# Altium integrated library Analog Devices Data Converters Digital-to-Analog Converters.IntLib: 2231 symbols (part 114 of 181)
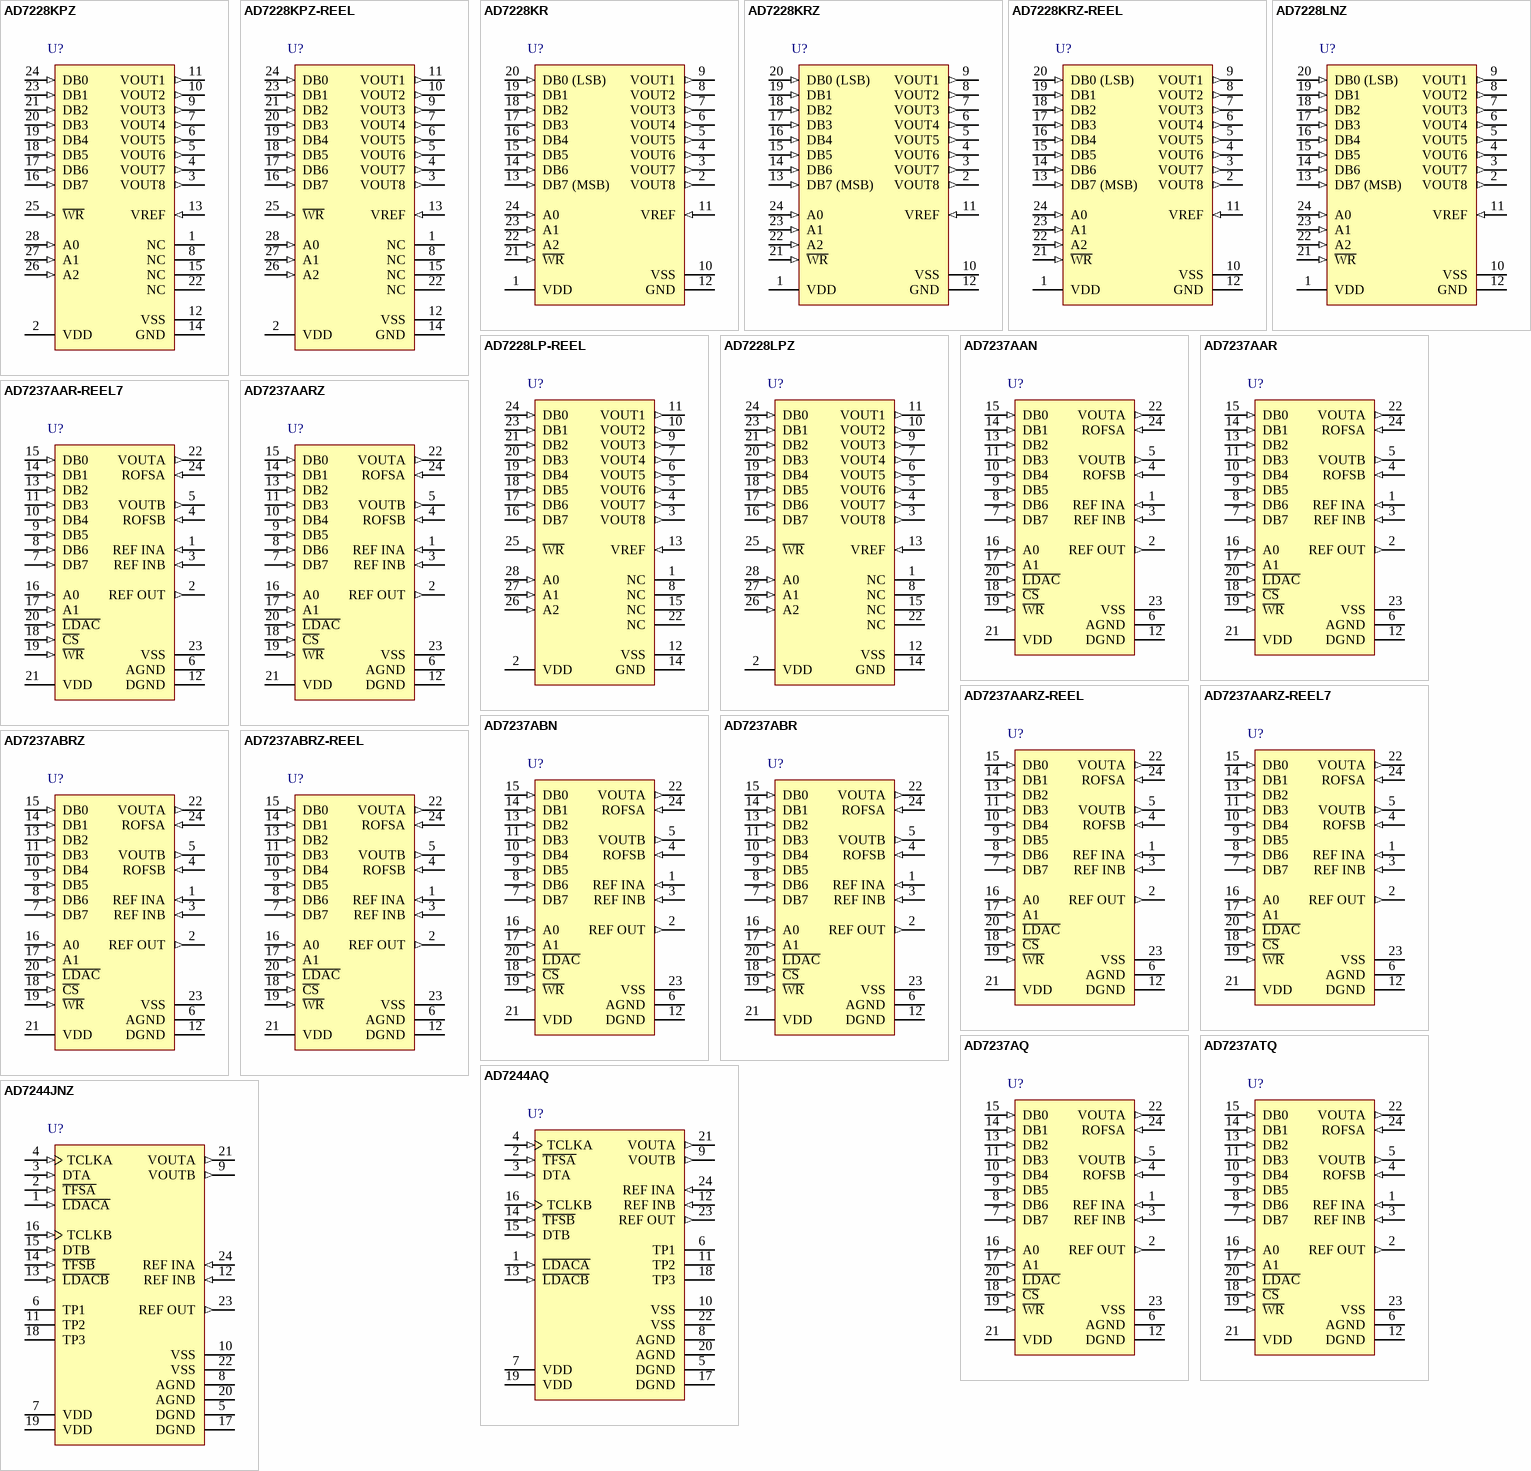
[diagram p227: symbols AD7228KPZ to AD7244JNZ]

## AD7237AARZ-REEL7
designator U?
Dual 12-Bit LC2MOS DACPORT, -40 to +85 degC, RW-24, Pb-Free, Reel; Generic Part Number: AD7237A; Manufacturer: Analog Devices; PartNumber: AD7237AARZ-REEL7; # DAC Outputs: 2; Max V+: 16.5V; Op Pwr Diss: 300mW; Resolution (Bits): 12; Settling Time: 8µs; Single Supply: Yes; DatasheetVersion: Rev.A; PackageVersion: 060706-A; PackageReference: RW-24; PackageDescription: 24-Lead Standard Small Outline Package [SOIC_W]; Supplier 1: Digi-Key; Supplier Part Number 1: AD7237AARZ-REEL7-ND; Supplier 2: Mouser; Supplier Part Number 2: 584-AD7237AARZ-R7; Packing: Reel; RoHS: Y; Mounting Technology: Surface Mount; Code_JEDEC: MS-013-AD; ComponentLink1Description: Manufacturer URL; ComponentLink1URL: http://www.analog.com/en/index.html; ComponentLink2Description: Datasheet; ComponentLink2URL: http://www.analog.com/static/imported-files/data_sheets/AD7237_7247.pdf; ComponentLink3Description: Package Specification; ComponentLink3URL: http://www.analog.com/static/imported-files/packages/33665150946139RW_24.pdf; ComponentLink4Description: Product URL; ComponentLink4URL: http://www.analog.com/en/digital-to-analog-converters/da-converters/ad7237/products/product.html
footprint RW-24_N (SOIC, 24-Leads, Body 15.4x7.5mm, Pitch 1.27mm, IPC Medium Density)
footprint RW-24_L (SOIC, 24-Leads, Body 15.4x7.5mm, Pitch 1.27mm, IPC High Density)
footprint RW-24_M (SOIC, 24-Leads, Body 15.4x7.5mm, Pitch 1.27mm, IPC Low Density)
pins: 1 REF INA (in) "Voltage Reference Input for DAC A. The reference voltage for DAC A is applied to this pin. It is internally buffered before being applied to the DAC. The nominal reference voltage for correct operation of the AD7237A is 5 V.", 2 REF OUT (out) "Voltage Reference Output. The internal 5 V analog reference is provided at this pin. To operate the part with internal reference, REF OUT should be connected to REF INA, REF INB.", 3 REF INB (in) "Voltage Reference Input for DAC B. The reference voltage for DAC B is applied to this pin. It is internally buffered before being applied to the DAC. The nominal reference voltage for correct operation of the AD7237A is 5 V.", 4 ROFSB (in) "Output Offset Resistor for DAC B. This input configures the output ranges for DAC B. It is connected to VOUTB for the +5 V range, to AGND for the +10 V range and to REF INB for the +/-5 V range.", 5 VOUTB (out) "Analog Output Voltage from DAC B. This is the buffer amplifier output voltage. Three different output voltage ranges can be chosen: 0 V to +5 V, 0 V to +10 V and +/-5 V. The amplifier is capable of developing +10 V across a (See Datasheet)", 6 AGND (power) "Analog Ground. Ground reference for DACs, reference and output buffer amplifiers.", 7 DB7 (in) "Data Bit 7.", 8 DB6 (in) "Data Bit 6.", 9 DB5 (in) "Data Bit 5.", 10 DB4 (in) "Data Bit 4.", 11 DB3 (in) "Data Bit 3", 12 DGND (power) "Digital Ground. Ground reference for digital circuitry.", 13 DB2 (in) "Data Bit 2", 14 DB1 (in) "Data Bit 1", 15 DB0 (in) "Data Bit 0 (LSB)", 16 A0 (in) "Address Input. Least significant address input for input latches. A0 and A1 select which of the four input latches data is written to", 17 A1 (in) "Address Input. Most significant address input for input latches.", 18 ~{CS} (in) "Chip Select. Active low logic input. The device is selected when this input is active.", 19 ~{WR} (in) "Write Input. W\R\ is an active low logic input which is used in conjunction with C\S\, A0 and A1 to write data to the input latches.", 20 ~{LDAC} (in) "Load DAC. Logic input. A new word is loaded into the DAC latches from the respective input latches on the falling edge of this signal.", 21 VDD (power) "Positive Supply ,+15 V.", 22 VOUTA (out) "Analog Output Voltage from DAC A. This is the buffer amplifier output voltage. Three different output voltage ranges can be chosen: 0 V to +5 V, 0 V to +10 V and +/-5 V. The amplifier is capable of developing +10 V across a (See Datasheet)", 23 VSS (power) "Negative Supply ,-15 V.", 24 ROFSA (in) "Output Offset Resistor for DAC A. This input configures the output ranges for DAC A. It is connected to VOUTA for the +5 V range, to AGND for the +10 V range and to REF INA for the +/-5 V range."

## AD7237ABN
designator U?
Dual 12-Bit LC2MOS DACPORT, -40 to +85 degC, N-24-1, Tube; Generic Part Number: AD7237A; Manufacturer: Analog Devices; PartNumber: AD7237ABN; # DAC Outputs: 2; Max V+: 16.5V; Op Pwr Diss: 300mW; Resolution (Bits): 12; Settling Time: 8µs; Single Supply: Yes; DatasheetVersion: Rev.A; PackageVersion: 071006-A; PackageReference: N-24-1; PackageDescription: 24-Lead Plastic Dual In-Line Package [PDIP] Narrow Body; Supplier 1: Digi-Key; Supplier Part Number 1: AD7237ABN-ND; Supplier 2: Newark; Supplier Part Number 2: 09B5587; Supplier 3: Mouser; Supplier Part Number 3: 584-AD7237ABN; Packing: Tube; RoHS: N; Mounting Technology: Through Hole; Code_JEDEC: MS-001; ComponentLink1Description: Manufacturer URL; ComponentLink1URL: http://www.analog.com/en/index.html; ComponentLink2Description: Datasheet; ComponentLink2URL: http://www.analog.com/static/imported-files/data_sheets/AD7237_7247.pdf; ComponentLink3Description: Package Specification; ComponentLink3URL: http://www.analog.com/static/imported-files/packages/50726455539629N_24_1.pdf; ComponentLink4Description: Product URL; ComponentLink4URL: http://www.analog.com/en/digital-to-analog-converters/da-converters/ad7237/products/product.html
footprint N-24-1 (DIP, 24-Leads, Row Spacing 7.62mm, Pitch 2.54mm, Body 31.9x6.6mm)
pins: 1 REF INA (in) "Voltage Reference Input for DAC A.The reference voltage for DAC A is applied to this pin.It is internally buffered before being applied to the DAC.The nominal reference voltage for correct operation of the AD7237 is 5 V.", 2 REF OUT (out) "Voltage Reference Output.The internal 5 V analog reference is provided at this pin.To operate the part with internal reference,REF OUT should be connected to REF INA,REF INB.", 3 REF INB (in) "Voltage Reference Input for DAC B.The reference voltage for DAC B is applied to this pin.It is internally buffered before being applied to the DAC.The nominal reference voltage for correct operation of the AD7237 is 5 V.", 4 ROFSB (in) "Output Offset Resistor for DAC B.This input configures the output ranges for DAC B.It is connected to VOUTB for the + 5 V range,to AGND for the + 10 V range and to REF INB for the +/- 5 V range.", 5 VOUTB (out) "Analog Output Voltage from DAC B.This is the buffer amplifier output voltage.Three different output voltage ranges can be chosen:0 to + 5 V,0 to + 10 V and +/- 5 V.The amplifier is capable of developing + 10 V across a 2 (See Datasheet)", 6 AGND (power) "Analog Ground.Ground reference for DACs,reference and output buffer amplifiers.", 7 DB7 (in) "Data Bit 7.", 8 DB6 (in) "Data bit 6.", 9 DB5 (in) "Data Bit 5.", 10 DB4 (in) "Data Bit 4.", 11 DB3 (in) "Data Bit 3/Data Bit 11 (MSB).", 12 DGND (power) "Digital Ground.Ground reference for digital circuitry.", 13 DB2 (in) "Data Bit 2/Data Bit 10.", 14 DB1 (in) "Data Bit 1/Data Bit 9.", 15 DB0 (in) "Data Bit 0 (LSB)/Data Bit 8.", 16 A0 (in) "Address Input.Least significant address input for input latches.A0 and A1 select which of the four input latches data is written to (see Table II)", 17 A1 (in) "Address Input.Most significant address input for input latches.", 18 ~{CS} (in) "Chip Select.Active low logic input.The device is selected when this input is active.", 19 ~{WR} (in) "Write Input.W\R\ is an active low logic input which is used in conjunction with C\S\,A0 and A1 to write data to the input latches.", 20 ~{LDAC} (in) "Load DAC.Logic input.A new word is loaded into the DAC latches from the respective input latches on the falling edge of this signal.", 21 VDD (power) "Positive Supply,+ 15 V.", 22 VOUTA (out) "Analog Output Voltage from DAC A.This is the buffer amplifier output voltage.Three different output voltage ranges can be chosen:0 to + 5 V,0 to + 10 V and +/- 5 V.The amplifier is capable of developing + 10 V across a 2 (See Datasheet)", 23 VSS (power) "Negative Supply,- 15 V.", 24 ROFSA (in) "Output Offset Resistor for DAC A.This input configures the output ranges for DAC A.It is connected to VOUTA for the + 5 V range,to AGND for the + 10 V range and to REF INB for the +/- 5 V range."

## AD7237ABR
designator U?
Dual 12-Bit LC2MOS DACPORT, -40 to +85 degC, RW-24, Tube; Generic Part Number: AD7237A; Manufacturer: Analog Devices; PartNumber: AD7237ABR; # DAC Outputs: 2; Max V+: 16.5V; Op Pwr Diss: 300mW; Resolution (Bits): 12; Settling Time: 8µs; Single Supply: Yes; DatasheetVersion: Rev.A; PackageVersion: 060706-A; PackageReference: RW-24; PackageDescription: 24-Lead Standard Small Outline Package [SOIC_W]; Supplier 1: Digi-Key; Supplier Part Number 1: AD7237ABR-ND; Supplier 2: Newark; Supplier Part Number 2: 09B5588; Supplier 3: Mouser; Supplier Part Number 3: 584-AD7237ABR; Packing: Tube; RoHS: N; Mounting Technology: Surface Mount; Code_JEDEC: MS-013-AD; ComponentLink1Description: Manufacturer URL; ComponentLink1URL: http://www.analog.com/en/index.html; ComponentLink2Description: Datasheet; ComponentLink2URL: http://www.analog.com/static/imported-files/data_sheets/AD7237_7247.pdf; ComponentLink3Description: Package Specification; ComponentLink3URL: http://www.analog.com/static/imported-files/packages/33665150946139RW_24.pdf; ComponentLink4Description: Product URL; ComponentLink4URL: http://www.analog.com/en/digital-to-analog-converters/da-converters/ad7237/products/product.html
footprint RW-24_N (SOIC, 24-Leads, Body 15.4x7.5mm, Pitch 1.27mm, IPC Medium Density)
footprint RW-24_L (SOIC, 24-Leads, Body 15.4x7.5mm, Pitch 1.27mm, IPC High Density)
footprint RW-24_M (SOIC, 24-Leads, Body 15.4x7.5mm, Pitch 1.27mm, IPC Low Density)
pins: 1 REF INA (in) "Voltage Reference Input for DAC A. The reference voltage for DAC A is applied to this pin. It is internally buffered before being applied to the DAC. The nominal reference voltage for correct operation of the AD7237A is 5 V.", 2 REF OUT (out) "Voltage Reference Output. The internal 5 V analog reference is provided at this pin. To operate the part with internal reference, REF OUT should be connected to REF INA, REF INB.", 3 REF INB (in) "Voltage Reference Input for DAC B. The reference voltage for DAC B is applied to this pin. It is internally buffered before being applied to the DAC. The nominal reference voltage for correct operation of the AD7237A is 5 V.", 4 ROFSB (in) "Output Offset Resistor for DAC B. This input configures the output ranges for DAC B. It is connected to VOUTB for the +5 V range, to AGND for the +10 V range and to REF INB for the +/-5 V range.", 5 VOUTB (out) "Analog Output Voltage from DAC B. This is the buffer amplifier output voltage. Three different output voltage ranges can be chosen: 0 V to +5 V, 0 V to +10 V and +/-5 V. The amplifier is capable of developing +10 V across a (See Datasheet)", 6 AGND (power) "Analog Ground. Ground reference for DACs, reference and output buffer amplifiers.", 7 DB7 (in) "Data Bit 7.", 8 DB6 (in) "Data Bit 6.", 9 DB5 (in) "Data Bit 5.", 10 DB4 (in) "Data Bit 4.", 11 DB3 (in) "Data Bit 3", 12 DGND (power) "Digital Ground. Ground reference for digital circuitry.", 13 DB2 (in) "Data Bit 2", 14 DB1 (in) "Data Bit 1", 15 DB0 (in) "Data Bit 0 (LSB)", 16 A0 (in) "Address Input. Least significant address input for input latches. A0 and A1 select which of the four input latches data is written to", 17 A1 (in) "Address Input. Most significant address input for input latches.", 18 ~{CS} (in) "Chip Select. Active low logic input. The device is selected when this input is active.", 19 ~{WR} (in) "Write Input. W\R\ is an active low logic input which is used in conjunction with C\S\, A0 and A1 to write data to the input latches.", 20 ~{LDAC} (in) "Load DAC. Logic input. A new word is loaded into the DAC latches from the respective input latches on the falling edge of this signal.", 21 VDD (power) "Positive Supply ,+15 V.", 22 VOUTA (out) "Analog Output Voltage from DAC A. This is the buffer amplifier output voltage. Three different output voltage ranges can be chosen: 0 V to +5 V, 0 V to +10 V and +/-5 V. The amplifier is capable of developing +10 V across a (See Datasheet)", 23 VSS (power) "Negative Supply ,-15 V.", 24 ROFSA (in) "Output Offset Resistor for DAC A. This input configures the output ranges for DAC A. It is connected to VOUTA for the +5 V range, to AGND for the +10 V range and to REF INA for the +/-5 V range."

## AD7237ABRZ
designator U?
Dual 12-Bit LC2MOS DACPORT, -40 to +85 degC, RW-24, Pb-Free, Tube; Generic Part Number: AD7237A; Manufacturer: Analog Devices; PartNumber: AD7237ABRZ; # DAC Outputs: 2; Max V+: 16.5V; Op Pwr Diss: 300mW; Resolution (Bits): 12; Settling Time: 8µs; Single Supply: Yes; DatasheetVersion: Rev.A; PackageVersion: 060706-A; PackageReference: RW-24; PackageDescription: 24-Lead Standard Small Outline Package [SOIC_W]; Supplier 1: Digi-Key; Supplier Part Number 1: AD7237ABRZ-ND; Supplier 2: Newark; Supplier Part Number 2: 59K4599; Supplier 3: Mouser; Supplier Part Number 3: 584-AD7237ABRZ; Packing: Tube; RoHS: Y; Mounting Technology: Surface Mount; Code_JEDEC: MS-013-AD; ComponentLink1Description: Manufacturer URL; ComponentLink1URL: http://www.analog.com/en/index.html; ComponentLink2Description: Datasheet; ComponentLink2URL: http://www.analog.com/static/imported-files/data_sheets/AD7237_7247.pdf; ComponentLink3Description: Package Specification; ComponentLink3URL: http://www.analog.com/static/imported-files/packages/33665150946139RW_24.pdf; ComponentLink4Description: Product URL; ComponentLink4URL: http://www.analog.com/en/digital-to-analog-converters/da-converters/ad7237/products/product.html
footprint RW-24_N (SOIC, 24-Leads, Body 15.4x7.5mm, Pitch 1.27mm, IPC Medium Density)
footprint RW-24_L (SOIC, 24-Leads, Body 15.4x7.5mm, Pitch 1.27mm, IPC High Density)
footprint RW-24_M (SOIC, 24-Leads, Body 15.4x7.5mm, Pitch 1.27mm, IPC Low Density)
pins: 1 REF INA (in) "Voltage Reference Input for DAC A. The reference voltage for DAC A is applied to this pin. It is internally buffered before being applied to the DAC. The nominal reference voltage for correct operation of the AD7237A is 5 V.", 2 REF OUT (out) "Voltage Reference Output. The internal 5 V analog reference is provided at this pin. To operate the part with internal reference, REF OUT should be connected to REF INA, REF INB.", 3 REF INB (in) "Voltage Reference Input for DAC B. The reference voltage for DAC B is applied to this pin. It is internally buffered before being applied to the DAC. The nominal reference voltage for correct operation of the AD7237A is 5 V.", 4 ROFSB (in) "Output Offset Resistor for DAC B. This input configures the output ranges for DAC B. It is connected to VOUTB for the +5 V range, to AGND for the +10 V range and to REF INB for the +/-5 V range.", 5 VOUTB (out) "Analog Output Voltage from DAC B. This is the buffer amplifier output voltage. Three different output voltage ranges can be chosen: 0 V to +5 V, 0 V to +10 V and +/-5 V. The amplifier is capable of developing +10 V across a (See Datasheet)", 6 AGND (power) "Analog Ground. Ground reference for DACs, reference and output buffer amplifiers.", 7 DB7 (in) "Data Bit 7.", 8 DB6 (in) "Data Bit 6.", 9 DB5 (in) "Data Bit 5.", 10 DB4 (in) "Data Bit 4.", 11 DB3 (in) "Data Bit 3", 12 DGND (power) "Digital Ground. Ground reference for digital circuitry.", 13 DB2 (in) "Data Bit 2", 14 DB1 (in) "Data Bit 1", 15 DB0 (in) "Data Bit 0 (LSB)", 16 A0 (in) "Address Input. Least significant address input for input latches. A0 and A1 select which of the four input latches data is written to", 17 A1 (in) "Address Input. Most significant address input for input latches.", 18 ~{CS} (in) "Chip Select. Active low logic input. The device is selected when this input is active.", 19 ~{WR} (in) "Write Input. W\R\ is an active low logic input which is used in conjunction with C\S\, A0 and A1 to write data to the input latches.", 20 ~{LDAC} (in) "Load DAC. Logic input. A new word is loaded into the DAC latches from the respective input latches on the falling edge of this signal.", 21 VDD (power) "Positive Supply ,+15 V.", 22 VOUTA (out) "Analog Output Voltage from DAC A. This is the buffer amplifier output voltage. Three different output voltage ranges can be chosen: 0 V to +5 V, 0 V to +10 V and +/-5 V. The amplifier is capable of developing +10 V across a (See Datasheet)", 23 VSS (power) "Negative Supply ,-15 V.", 24 ROFSA (in) "Output Offset Resistor for DAC A. This input configures the output ranges for DAC A. It is connected to VOUTA for the +5 V range, to AGND for the +10 V range and to REF INA for the +/-5 V range."

## AD7237ABRZ-REEL
designator U?
Dual 12-Bit LC2MOS DACPORT, -40 to +85 degC, RW-24, Pb-Free, Reel; Generic Part Number: AD7237A; Manufacturer: Analog Devices; PartNumber: AD7237ABRZ-REEL; # DAC Outputs: 2; Max V+: 16.5V; Op Pwr Diss: 300mW; Resolution (Bits): 12; Settling Time: 8µs; Single Supply: Yes; DatasheetVersion: Rev.A; PackageVersion: 060706-A; PackageReference: RW-24; PackageDescription: 24-Lead Standard Small Outline Package [SOIC_W]; Supplier 1: Digi-Key; Supplier Part Number 1: AD7237ABRZ-REEL-ND; Supplier 2: Mouser; Supplier Part Number 2: 584-AD7237ABRZ-R; Packing: Reel; RoHS: Y; Mounting Technology: Surface Mount; Code_JEDEC: MS-013-AD; ComponentLink1Description: Manufacturer URL; ComponentLink1URL: http://www.analog.com/en/index.html; ComponentLink2Description: Datasheet; ComponentLink2URL: http://www.analog.com/static/imported-files/data_sheets/AD7237_7247.pdf; ComponentLink3Description: Package Specification; ComponentLink3URL: http://www.analog.com/static/imported-files/packages/33665150946139RW_24.pdf; ComponentLink4Description: Product URL; ComponentLink4URL: http://www.analog.com/en/digital-to-analog-converters/da-converters/ad7237/products/product.html
footprint RW-24_N (SOIC, 24-Leads, Body 15.4x7.5mm, Pitch 1.27mm, IPC Medium Density)
footprint RW-24_L (SOIC, 24-Leads, Body 15.4x7.5mm, Pitch 1.27mm, IPC High Density)
footprint RW-24_M (SOIC, 24-Leads, Body 15.4x7.5mm, Pitch 1.27mm, IPC Low Density)
pins: 1 REF INA (in) "Voltage Reference Input for DAC A. The reference voltage for DAC A is applied to this pin. It is internally buffered before being applied to the DAC. The nominal reference voltage for correct operation of the AD7237A is 5 V.", 2 REF OUT (out) "Voltage Reference Output. The internal 5 V analog reference is provided at this pin. To operate the part with internal reference, REF OUT should be connected to REF INA, REF INB.", 3 REF INB (in) "Voltage Reference Input for DAC B. The reference voltage for DAC B is applied to this pin. It is internally buffered before being applied to the DAC. The nominal reference voltage for correct operation of the AD7237A is 5 V.", 4 ROFSB (in) "Output Offset Resistor for DAC B. This input configures the output ranges for DAC B. It is connected to VOUTB for the +5 V range, to AGND for the +10 V range and to REF INB for the +/-5 V range.", 5 VOUTB (out) "Analog Output Voltage from DAC B. This is the buffer amplifier output voltage. Three different output voltage ranges can be chosen: 0 V to +5 V, 0 V to +10 V and +/-5 V. The amplifier is capable of developing +10 V across a (See Datasheet)", 6 AGND (power) "Analog Ground. Ground reference for DACs, reference and output buffer amplifiers.", 7 DB7 (in) "Data Bit 7.", 8 DB6 (in) "Data Bit 6.", 9 DB5 (in) "Data Bit 5.", 10 DB4 (in) "Data Bit 4.", 11 DB3 (in) "Data Bit 3", 12 DGND (power) "Digital Ground. Ground reference for digital circuitry.", 13 DB2 (in) "Data Bit 2", 14 DB1 (in) "Data Bit 1", 15 DB0 (in) "Data Bit 0 (LSB)", 16 A0 (in) "Address Input. Least significant address input for input latches. A0 and A1 select which of the four input latches data is written to", 17 A1 (in) "Address Input. Most significant address input for input latches.", 18 ~{CS} (in) "Chip Select. Active low logic input. The device is selected when this input is active.", 19 ~{WR} (in) "Write Input. W\R\ is an active low logic input which is used in conjunction with C\S\, A0 and A1 to write data to the input latches.", 20 ~{LDAC} (in) "Load DAC. Logic input. A new word is loaded into the DAC latches from the respective input latches on the falling edge of this signal.", 21 VDD (power) "Positive Supply ,+15 V.", 22 VOUTA (out) "Analog Output Voltage from DAC A. This is the buffer amplifier output voltage. Three different output voltage ranges can be chosen: 0 V to +5 V, 0 V to +10 V and +/-5 V. The amplifier is capable of developing +10 V across a (See Datasheet)", 23 VSS (power) "Negative Supply ,-15 V.", 24 ROFSA (in) "Output Offset Resistor for DAC A. This input configures the output ranges for DAC A. It is connected to VOUTA for the +5 V range, to AGND for the +10 V range and to REF INA for the +/-5 V range."

## AD7237AQ
designator U?
Dual 12-Bit LC2MOS DACPORT, -40 to +85 degC, Q-24-1, Tube; Generic Part Number: AD7237A; Manufacturer: Analog Devices; PartNumber: AD7237AQ; # DAC Outputs: 2; Max V+: 16.5V; Op Pwr Diss: 300mW; Resolution (Bits): 12; Settling Time: 8µs; Single Supply: Yes; DatasheetVersion: Rev.A; PackageVersion: 100808-A; PackageReference: Q-24-1; PackageDescription: 24-Lead Ceramic Dual In-Line Package [CERDIP]; Supplier 1: Digi-Key; Supplier Part Number 1: AD7237AQ-ND; Supplier 2: Newark; Supplier Part Number 2: 05F7306; Supplier 3: Mouser; Supplier Part Number 3: 584-AD7237AQ; Packing: Tube; RoHS: N; Mounting Technology: Through Hole; ComponentLink1Description: Manufacturer URL; ComponentLink1URL: http://www.analog.com/en/index.html; ComponentLink2Description: Datasheet; ComponentLink2URL: http://www.analog.com/static/imported-files/data_sheets/AD7237_7247.pdf; ComponentLink3Description: Package Specification; ComponentLink3URL: http://www.analog.com/static/imported-files/packages/PKG_PDF/CERDIP(Q)/Q_24_1.pdf; ComponentLink4Description: Product URL; ComponentLink4URL: http://www.analog.com/en/digital-to-analog-converters/da-converters/ad7237/products/product.html
footprint Q-24-1 (DIP, 24-Leads, Row Spacing 7.62mm, Pitch 2.54mm, Body 31.9x6.7mm)
pins: 1 REF INA (in) "Voltage Reference Input for DAC A. The reference voltage for DAC A is applied to this pin. It is internally buffered before being applied to the DAC. The nominal reference voltage for correct operation of the AD7237A is 5 V.", 2 REF OUT (out) "Voltage Reference Output. The internal 5 V analog reference is provided at this pin. To operate the part with internal reference, REF OUT should be connected to REF INA, REF INB.", 3 REF INB (in) "Voltage Reference Input for DAC B. The reference voltage for DAC B is applied to this pin. It is internally buffered before being applied to the DAC. The nominal reference voltage for correct operation of the AD7237A is 5 V.", 4 ROFSB (in) "Output Offset Resistor for DAC B. This input configures the output ranges for DAC B. It is connected to VOUTB for the +5 V range, to AGND for the +10 V range and to REF INB for the +/-5 V range.", 5 VOUTB (out) "Analog Output Voltage from DAC B. This is the buffer amplifier output voltage. Three different output voltage ranges can be chosen: 0 V to +5 V, 0 V to +10 V and +/-5 V. The amplifier is capable of developing +10 V across a (See Datasheet)", 6 AGND (power) "Analog Ground. Ground reference for DACs, reference and output buffer amplifiers.", 7 DB7 (in) "Data Bit 7.", 8 DB6 (in) "Data Bit 6.", 9 DB5 (in) "Data Bit 5.", 10 DB4 (in) "Data Bit 4.", 11 DB3 (in) "Data Bit 3/Data Bit 11 (MSB).", 12 DGND (power) "Digital Ground. Ground reference for digital circuitry.", 13 DB2 (in) "Data Bit 2/Data Bit 10.", 14 DB1 (in) "Data Bit 1/Data Bit 9.", 15 DB0 (in) "Data Bit 0 (LSB)/Data Bit 8.", 16 A0 (in) "Address Input. Least significant address input for input latches. A0 and A1 select which of the four input latches data is written to (see Table II).", 17 A1 (in) "Address Input. Most significant address input for input latches.", 18 ~{CS} (in) "Chip Select. Active low logic input. The device is selected when this input is active.", 19 ~{WR} (in) "Write Input. W\R\ is an active low logic input which is used in conjunction with C\S\, A0 and A1 to write data to the input latches.", 20 ~{LDAC} (in) "Load DAC. Logic input. A new word is loaded into the DAC latches from the respective input latches on the falling edge of this signal.", 21 VDD (power) "Positive Supply,+15 V.", 22 VOUTA (out) "Analog Output Voltage from DAC A. This is the buffer amplifier output voltage. Three different output voltage ranges can be chosen: 0 V to +5 V, 0 V to +10 V and +/-5 V. The amplifier is capable of developing +10 V across a (See Datasheet)", 23 VSS (power) "Negative Supply,-15 V.", 24 ROFSA (in) "Output Offset Resistor for DAC A. This input configures the output ranges for DAC A. It is connected to VOUTA for the +5 V range, to AGND for the +10 V range and to REF INA for the +/-5 V range."

## AD7237ATQ
designator U?
Dual 12-Bit LC2MOS DACPORT, -55 to +125 degC, Q-24-1, Tube; Generic Part Number: AD7237A; Manufacturer: Analog Devices; PartNumber: AD7237ATQ; # DAC Outputs: 2; Max V+: 16.5V; Op Pwr Diss: 300mW; Resolution (Bits): 12; Settling Time: 8µs; Single Supply: Yes; DatasheetVersion: Rev.A; PackageVersion: 100808-A; PackageReference: Q-24-1; PackageDescription: 24-Lead Ceramic Dual In-Line Package [CERDIP]; Supplier 1: Digi-Key; Supplier Part Number 1: AD7237ATQ-ND; Supplier 2: Mouser; Supplier Part Number 2: 584-AD7237ATQ; Packing: Tube; RoHS: N; Mounting Technology: Through Hole; ComponentLink1Description: Manufacturer URL; ComponentLink1URL: http://www.analog.com/en/index.html; ComponentLink2Description: Datasheet; ComponentLink2URL: http://www.analog.com/static/imported-files/data_sheets/AD7237_7247.pdf; ComponentLink3Description: Package Specification; ComponentLink3URL: http://www.analog.com/static/imported-files/packages/PKG_PDF/CERDIP(Q)/Q_24_1.pdf; ComponentLink4Description: Product URL; ComponentLink4URL: http://www.analog.com/en/digital-to-analog-converters/da-converters/ad7237/products/product.html
footprint Q-24-1 (DIP, 24-Leads, Row Spacing 7.62mm, Pitch 2.54mm, Body 31.9x6.7mm)
pins: 1 REF INA (in) "Voltage Reference Input for DAC A. The reference voltage for DAC A is applied to this pin. It is internally buffered before being applied to the DAC. The nominal reference voltage for correct operation of the AD7237A is 5 V.", 2 REF OUT (out) "Voltage Reference Output. The internal 5 V analog reference is provided at this pin. To operate the part with internal reference, REF OUT should be connected to REF INA, REF INB.", 3 REF INB (in) "Voltage Reference Input for DAC B. The reference voltage for DAC B is applied to this pin. It is internally buffered before being applied to the DAC. The nominal reference voltage for correct operation of the AD7237A is 5 V.", 4 ROFSB (in) "Output Offset Resistor for DAC B. This input configures the output ranges for DAC B. It is connected to VOUTB for the +5 V range, to AGND for the +10 V range and to REF INB for the +/-5 V range.", 5 VOUTB (out) "Analog Output Voltage from DAC B. This is the buffer amplifier output voltage. Three different output voltage ranges can be chosen: 0 V to +5 V, 0 V to +10 V and +/-5 V. The amplifier is capable of developing +10 V across a (See Datasheet)", 6 AGND (power) "Analog Ground. Ground reference for DACs, reference and output buffer amplifiers.", 7 DB7 (in) "Data Bit 7.", 8 DB6 (in) "Data Bit 6.", 9 DB5 (in) "Data Bit 5.", 10 DB4 (in) "Data Bit 4.", 11 DB3 (in) "Data Bit 3/Data Bit 11 (MSB).", 12 DGND (power) "Digital Ground. Ground reference for digital circuitry.", 13 DB2 (in) "Data Bit 2/Data Bit 10.", 14 DB1 (in) "Data Bit 1/Data Bit 9.", 15 DB0 (in) "Data Bit 0 (LSB)/Data Bit 8.", 16 A0 (in) "Address Input. Least significant address input for input latches. A0 and A1 select which of the four input latches data is written to (see Table II).", 17 A1 (in) "Address Input. Most significant address input for input latches.", 18 ~{CS} (in) "Chip Select. Active low logic input. The device is selected when this input is active.", 19 ~{WR} (in) "Write Input. W\R\ is an active low logic input which is used in conjunction with C\S\, A0 and A1 to write data to the input latches.", 20 ~{LDAC} (in) "Load DAC. Logic input. A new word is loaded into the DAC latches from the respective input latches on the falling edge of this signal.", 21 VDD (power) "Positive Supply,+15 V.", 22 VOUTA (out) "Analog Output Voltage from DAC A. This is the buffer amplifier output voltage. Three different output voltage ranges can be chosen: 0 V to +5 V, 0 V to +10 V and +/-5 V. The amplifier is capable of developing +10 V across a (See Datasheet)", 23 VSS (power) "Negative Supply,-15 V.", 24 ROFSA (in) "Output Offset Resistor for DAC A. This input configures the output ranges for DAC A. It is connected to VOUTA for the +5 V range, to AGND for the +10 V range and to REF INA for the +/-5 V range."

## AD7244AQ
designator U?
Dual 14-Bit LC2MOS Digital-to-Analog Converter, -40 to +85 degC, Q-24-1, Tube; Generic Part Number: AD7244; Manufacturer: Analog Devices; PartNumber: AD7244AQ; # DAC Outputs: 2; Max V+: 5.25V; Op Pwr Diss: 195mW; Resolution (Bits): 14; Settling Time: 4µs; Single Supply: No; DatasheetVersion: Rev.A; PackageVersion: 100808-A; PackageReference: Q-24-1; PackageDescription: 24-Lead Ceramic Dual In-Line Package [CERDIP]; Supplier 1: Digi-Key; Supplier Part Number 1: AD7244AQ-ND; Supplier 2: Mouser; Supplier Part Number 2: 584-AD7244AQ; Packing: Tube; RoHS: N; Mounting Technology: Through Hole; ComponentLink1Description: Manufacturer URL; ComponentLink1URL: http://www.analog.com/en/index.html; ComponentLink2Description: Datasheet; ComponentLink2URL: http://www.analog.com/static/imported-files/data_sheets/AD7242_7244.pdf; ComponentLink3Description: Package Specification; ComponentLink3URL: http://www.analog.com/static/imported-files/packages/PKG_PDF/CERDIP(Q)/Q_24_1.pdf; ComponentLink4Description: Product URL; ComponentLink4URL: http://www.analog.com/en/digital-to-analog-converters/da-converters/ad7244/products/product.html
footprint Q-24-1 (DIP, 24-Leads, Row Spacing 7.62mm, Pitch 2.54mm, Body 31.9x6.7mm)
pins: 1 ~{LDACA} (in) "Load DAC, Logic Input. A new word is transferred into DAC Latch A from input Latch A on the falling edge of this signal. If L\D\A\C\A\ is hard-wired low, data is transferred from input Latch A to DAC Latch A on the sixteenth (See Datasheet)", 2 ~{TFSA} (in) "Transmit Frame Synchronization, Logic Input. This is a frame or synchronization signal for DACA data with serial data expected after the falling edge of this signal.", 3 DTA (in) "Transmit Data, Logic Input. This is the data input which is used in conjunction with T\F\S\A\ and TCLKA to transfer serial data to input Latch A.", 4 TCLKA (in) "Transmit Clock, Logic Input. Serial data bits for DACA are latched on the falling edge of TCLKA when T\F\S\A\ is low.", 5 DGND (power) "Digital Ground. Both DGND pins for the device must be tied together at the device.", 6 TP1 "Test Pin 1. Used when testing the device. Do not connect anything to this pin.", 7 VDD (power) "Positive Power Supply, 5 V +/- 5%. Both VDD pins for the device must be tied together at the device.", 8 AGND (power) "Analog Ground. Both AGND pins for the device must be tied together at the device.", 9 VOUTB (out) "Analog Output Voltage from DACB. This output comes from a buffer amplifier. The range is bipolar, +/-3 V with REF INB = +3 V.", 10 VSS (power) "Negative Power Supply, -5 V +/- 5%. Both VSS pins for the device must be tied together at the device.", 11 TP2 "Test Pin 2. Used when testing the device. Do not connect anything to this pin.", 12 REF INB (in) "DACB Voltage Reference Input. The voltage reference for DACB is applied to this pin. It is internally buffered before being applied to DACB. The nominal reference voltage for correct operation of the AD7244 is 3 V.", 13 ~{LDACB} (in) "Load DAC, Logic Input. A new word is transferred into DAC Latch B from input Latch B on the falling edge of this signal. If L\D\A\C\B\ is hard-wired low, data is transferred from input Latch B to DAC Latch B on the sixteenth (See Datasheet)", 14 ~{TFSB} (in) "Transmit Frame Synchronization, Logic Input. This is a frame or synchronization signal for DACB data with serial data expected after the falling edge of this signal.", 15 DTB (in) "Transmit Data, Logic Input. This is the data input used in conjunction with T\F\S\B\ and TCLKB to transfer serial data to input Latch B.", 16 TCLKB (in) "Transmit Clock, Logic Input. Serial data bits for DACB are latched on the falling edge of TCLKB when T\F\S\B\ is low.", 17 DGND (power) "Digital Ground. Both DGND pins for the device must be tied together at the device.", 18 TP3 "Test Pin 3. Used when testing the device. Do not connect anything to this pin.", 19 VDD (power) "Positive Power Supply, 5 V +/- 5%. Both VDD pins for the device must be tied together at the device.", 20 AGND (power) "Analog Ground. Both AGND pins for the device must be tied together at the device.", 21 VOUTA (out) "Analog Output Voltage from DACA. This output comes from a buffer amplifier. The range is bipolar, +/-3 V with REF INA = +3 V.", 22 VSS (power) "Negative Power Supply, -5 V +/- 5%. Both VSS pins for the device must be tied together at the device.", 23 REF OUT (out) "Voltage Reference Output. To operate the DACs with this internal reference, REF OUT should be connected to both REF INA and REF INB. The external load capability of the reference is 500 uA.", 24 REF INA (in) "DACA Voltage Reference Input. The voltage reference for DACA is applied to this pin. It is internally buffered before being applied to DACA. The nominal reference voltage for correct operation of the AD7244 is 3 V."

## AD7244JNZ
designator U?
Dual 14-Bit LC2MOS Digital-to-Analog Converter, 0 to +70 degC, N-24-1, Pb-Free, Tube; Generic Part Number: AD7244; Manufacturer: Analog Devices; PartNumber: AD7244JNZ; # DAC Outputs: 2; Max V+: 5.25V; Op Pwr Diss: 195mW; Resolution (Bits): 14; Settling Time: 4µs; Single Supply: No; DatasheetVersion: Rev.A; PackageVersion: 071006-A; PackageReference: N-24-1; PackageDescription: 24-Lead Plastic Dual In-Line Package [PDIP] Narrow Body; Supplier 1: Digi-Key; Supplier Part Number 1: AD7244JNZ-ND; Supplier 2: Mouser; Supplier Part Number 2: 584-AD7244JNZ; Packing: Tube; RoHS: Y; Mounting Technology: Through Hole; Code_JEDEC: MS-001; ComponentLink1Description: Manufacturer URL; ComponentLink1URL: http://www.analog.com/en/index.html; ComponentLink2Description: Datasheet; ComponentLink2URL: http://www.analog.com/static/imported-files/data_sheets/AD7242_7244.pdf; ComponentLink3Description: Package Specification; ComponentLink3URL: http://www.analog.com/static/imported-files/packages/50726455539629N_24_1.pdf; ComponentLink4Description: Product URL; ComponentLink4URL: http://www.analog.com/en/digital-to-analog-converters/da-converters/ad7244/products/product.html
footprint N-24-1 (DIP, 24-Leads, Row Spacing 7.62mm, Pitch 2.54mm, Body 31.9x6.6mm)
pins: 1 ~{LDACA} (in) "Load DAC, Logic Input. A new word is transferred into DAC Latch A from input Latch A on the falling edge of this signal. If L\D\A\C\A\ is hard-wired low, data is transferred from input Latch A to DAC Latch A on the sixteenth (See Datasheet)", 2 ~{TFSA} (in) "Transmit Frame Synchronization, Logic Input. This is a frame or synchronization signal for DACA data with serial data expected after the falling edge of this signal.", 3 DTA (in) "Transmit Data, Logic Input. This is the data input which is used in conjunction with T\F\S\A\ and TCLKA to transfer serial data to input Latch A.", 4 TCLKA (in) "Transmit Clock, Logic Input. Serial data bits for DACA are latched on the falling edge of TCLKA when T\F\S\A\ is low.", 5 DGND (power) "Digital Ground. Both DGND pins for the device must be tied together at the device.", 6 TP1 "Test Pin 1. Used when testing the device. Do not connect anything to this pin.", 7 VDD (power) "Positive Power Supply, 5 V +/- 5%. Both VDD pins for the device must be tied together at the device.", 8 AGND (power) "Analog Ground. Both AGND pins for the device must be tied together at the device.", 9 VOUTB (out) "Analog Output Voltage from DACB. This output comes from a buffer amplifier. The range is bipolar, +/-3 V with REF INB = +3 V.", 10 VSS (power) "Negative Power Supply, -5 V +/- 5%. Both VSS pins for the device must be tied together at the device.", 11 TP2 "Test Pin 2. Used when testing the device. Do not connect anything to this pin.", 12 REF INB (in) "DACB Voltage Reference Input. The voltage reference for DACB is applied to this pin. It is internally buffered before being applied to DACB. The nominal reference voltage for correct operation of the AD7242/AD7244 is 3 V.", 13 ~{LDACB} (in) "Load DAC, Logic Input. A new word is transferred into DAC Latch B from input Latch B on the falling edge of this signal. If L\D\A\C\B\ is hard-wired low, data is transferred from input Latch B to DAC Latch B on the sixteenth (See Datasheet)", 14 ~{TFSB} (in) "Transmit Frame Synchronization, Logic Input. This is a frame or synchronization signal for DACB data with serial data expected after the falling edge of this signal.", 15 DTB (in) "Transmit Data, Logic Input. This is the data input used in conjunction with T\F\S\B\ and TCLKB to transfer serial data to input Latch B.", 16 TCLKB (in) "Transmit Clock, Logic Input. Serial data bits for DACB are latched on the falling edge of TCLKB when T\F\S\B\ is low.", 17 DGND (power) "Digital Ground. Both DGND pins for the device must be tied together at the device.", 18 TP3 "Test Pin 3. Used when testing the device. Do not connect anything to this pin.", 19 VDD (power) "Positive Power Supply, 5 V +/- 5%. Both VDD pins for the device must be tied together at the device.", 20 AGND (power) "Analog Ground. Both AGND pins for the device must be tied together at the device.", 21 VOUTA (out) "Analog Output Voltage from DACA. This output comes from a buffer amplifier. The range is bipolar, +/-3 V with REF INA = +3 V.", 22 VSS (power) "Negative Power Supply, -5 V +/- 5%. Both VSS pins for the device must be tied together at the device.", 23 REF OUT (out) "Voltage Reference Output. To operate the DACs with this internal reference, REF OUT should be connected to both REF INA and REF INB. The external load capability of the reference is 500 uA.", 24 REF INA (in) "DACA Voltage Reference Input. The voltage reference for DACA is applied to this pin. It is internally buffered before being applied to DACA. The nominal reference voltage for correct operation of the AD7242/AD7244 is 3 V."

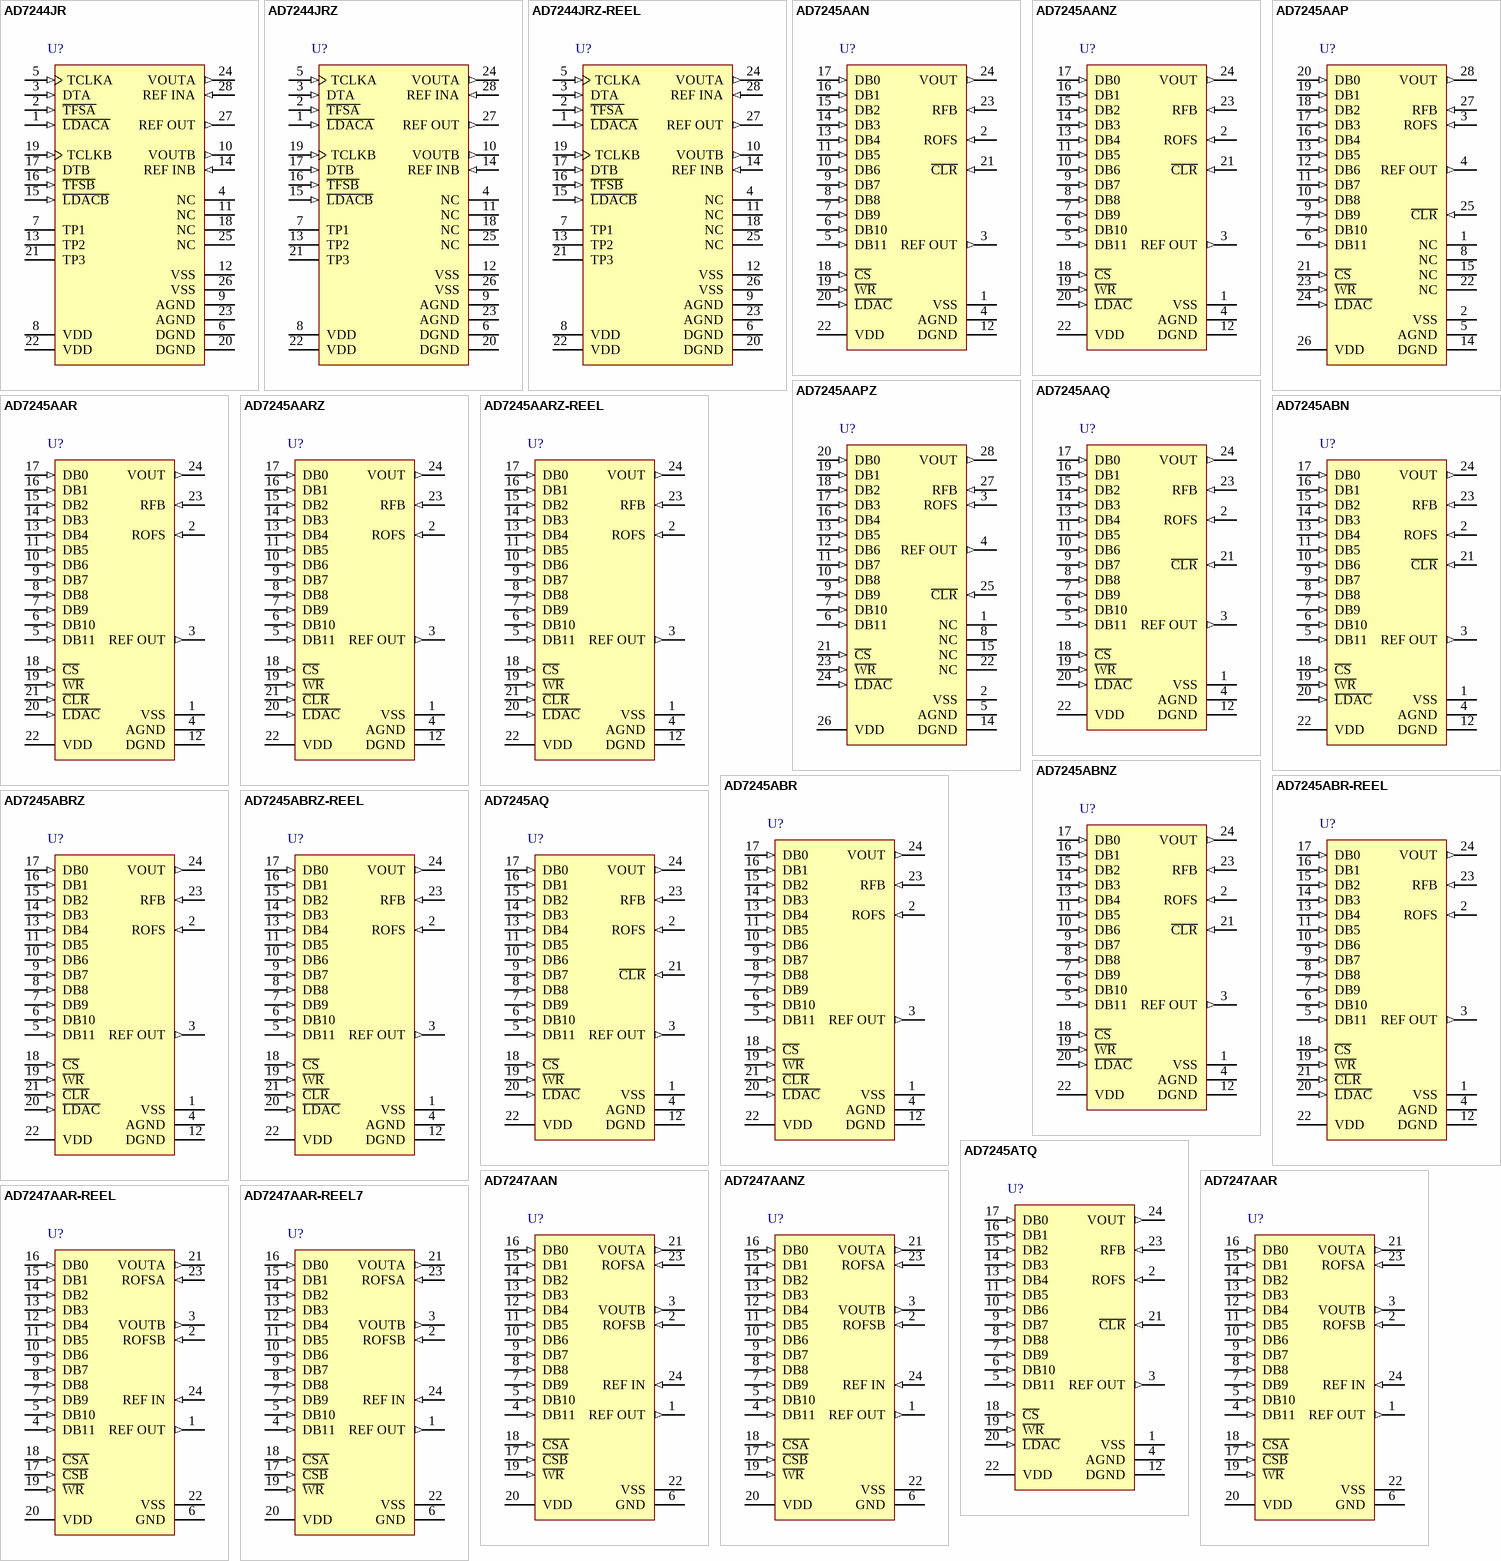
[diagram p61: symbols AD7244JR to AD7247AAR-REEL7]

## AD7244JR
designator U?
Dual 14-Bit LC2MOS Digital-to-Analog Converter, 0 to +70 degC, RW-28, Tube; Generic Part Number: AD7244; Manufacturer: Analog Devices; PartNumber: AD7244JR; # DAC Outputs: 2; Max V+: 5.25V; Op Pwr Diss: 195mW; Resolution (Bits): 14; Settling Time: 4µs; Single Supply: No; DatasheetVersion: Rev.A; PackageVersion: 060706-A; PackageReference: RW-28; PackageDescription: 28-Lead Standard Small Outline Package [SOIC_W]; Supplier 1: Digi-Key; Supplier Part Number 1: AD7244JR-ND; Supplier 2: Mouser; Supplier Part Number 2: 584-AD7244JR; Packing: Tube; RoHS: N; Mounting Technology: Surface Mount; Code_JEDEC: MS-013-AE; ComponentLink1Description: Manufacturer URL; ComponentLink1URL: http://www.analog.com/en/index.html; ComponentLink2Description: Datasheet; ComponentLink2URL: http://www.analog.com/static/imported-files/data_sheets/AD7242_7244.pdf; ComponentLink3Description: Product URL; ComponentLink3URL: http://www.analog.com/en/digital-to-analog-converters/da-converters/ad7244/products/product.html
footprint RW-28_N (SOIC, 28-Leads, Body 17.9x7.5mm, Pitch 1.27mm, IPC Medium Density)
footprint RW-28_L (SOIC, 28-Leads, Body 17.9x7.5mm, Pitch 1.27mm, IPC High Density)
footprint RW-28_M (SOIC, 28-Leads, Body 17.9x7.5mm, Pitch 1.27mm, IPC Low Density)
pins: 1 ~{LDACA} (in) "Load DAC, Logic Input. A new word is transferred into DAC Latch A from input Latch A on the falling edge of this signal. If L\D\A\C\A\ is hard-wired low, data is transferred from input Latch A to DAC Latch A on the sixteenth (See Datasheet)", 2 ~{TFSA} (in) "Transmit Frame Synchronization, Logic Input. This is a frame or synchronization signal for DACA data with serial data expected after the falling edge of this signal.", 3 DTA (in) "Transmit Data, Logic Input. This is the data input which is used in conjunction with T\F\S\A\ and TCLKA to transfer serial data to input Latch A.", 4 NC "No Connect.", 5 TCLKA (in) "Transmit Clock, Logic Input. Serial data bits for DACA are latched on the falling edge of TCLKA when T\F\S\A\ is low.", 6 DGND (power) "Digital Ground. Both DGND pins for the device must be tied together at the device.", 7 TP1 "Test Pin 1. Used when testing the device. Do not connect anything to this pin.", 8 VDD (power) "Positive Power Supply, 5 V +/- 5%. Both VDD pins for the device must be tied together at the device.", 9 AGND (power) "Analog Ground. Both AGND pins for the device must be tied together at the device.", 10 VOUTB (out) "Analog Output Voltage from DACB. This output comes from a buffer amplifier. The range is bipolar, +/-3 V with REF INB = +3 V.", 11 NC "No Connect.", 12 VSS (power) "Negative Power Supply, -5 V +/- 5%. Both VSS pins for the device must be tied together at the device.", 13 TP2 "Test Pin 2. Used when testing the device. Do not connect anything to this pin.", 14 REF INB (in) "DACB Voltage Reference Input. The voltage reference for DACB is applied to this pin. It is internally buffered before being applied to DACB. The nominal reference voltage for correct operation of the AD7244 is 3 V.", 15 ~{LDACB} (in) "Load DAC, Logic Input. A new word is transferred into DAC Latch B from input Latch B on the falling edge of this signal. If L\D\A\C\B\ is hard-wired low, data is transferred from input Latch B to DAC Latch B on the sixteenth (See Datasheet)", 16 ~{TFSB} (in) "Transmit Frame Synchronization, Logic Input. This is a frame or synchronization signal for DACB data with serial data expected after the falling edge of this signal.", 17 DTB (in) "Transmit Data, Logic Input. This is the data input used in conjunction with T\F\S\B\ and TCLKB to transfer serial data to input Latch B.", 18 NC "No Connect.", 19 TCLKB (in) "Transmit Clock, Logic Input. Serial data bits for DACB are latched on the falling edge of TCLKB when T\F\S\B\ is low.", 20 DGND (power) "Digital Ground. Both DGND pins for the device must be tied together at the device.", 21 TP3 "Test Pin 3. Used when testing the device. Do not connect anything to this pin.", 22 VDD (power) "Positive Power Supply, 5 V +/- 5%. Both VDD pins for the device must be tied together at the device", 23 AGND (power) "Analog Ground. Both AGND pins for the device must be tied together at the device.", 24 VOUTA (out) "Analog Output Voltage from DACA. This output comes from a buffer amplifier. The range is bipolar, +/-3 V with REF INA = +3 V.", 25 NC "No Connect.", 26 VSS (power) "Negative Power Supply, -5 V +/- 5%. Both VSS pins for the device must be tied together at the device.", 27 REF OUT (out) "Voltage Reference Output. To operate the DACs with this internal reference, REF OUT should be connected to both REF INA and REF INB. The external load capability of the reference is 500 uA.", 28 REF INA (in) "DACA Voltage Reference Input. The voltage reference for DACA is applied to this pin. It is internally buffered before being applied to DACA. The nominal reference voltage for correct operation of the AD7244 is 3 V."

## AD7244JRZ
designator U?
Dual 14-Bit LC2MOS Digital-to-Analog Converter, 0 to +70 degC, RW-28, Pb-Free, Tube; Generic Part Number: AD7244; Manufacturer: Analog Devices; PartNumber: AD7244JRZ; # DAC Outputs: 2; Max V+: 5.25V; Op Pwr Diss: 195mW; Resolution (Bits): 14; Settling Time: 4µs; Single Supply: No; DatasheetVersion: Rev.A; PackageVersion: 060706-A; PackageReference: RW-28; PackageDescription: 28-Lead Standard Small Outline Package [SOIC_W]; Supplier 1: Digi-Key; Supplier Part Number 1: AD7244JRZ-ND; Supplier 2: Farnell; Supplier Part Number 2: 1438392; Supplier 3: Newark; Supplier Part Number 3: 59K4614; Supplier 4: Mouser; Supplier Part Number 4: 584-AD7244JRZ; Packing: Tube; RoHS: Y; Mounting Technology: Surface Mount; Code_JEDEC: MS-013-AE; ComponentLink1Description: Manufacturer URL; ComponentLink1URL: http://www.analog.com/en/index.html; ComponentLink2Description: Datasheet; ComponentLink2URL: http://www.analog.com/static/imported-files/data_sheets/AD7242_7244.pdf; ComponentLink3Description: Product URL; ComponentLink3URL: http://www.analog.com/en/digital-to-analog-converters/da-converters/ad7244/products/product.html
footprint RW-28_N (SOIC, 28-Leads, Body 17.9x7.5mm, Pitch 1.27mm, IPC Medium Density)
footprint RW-28_L (SOIC, 28-Leads, Body 17.9x7.5mm, Pitch 1.27mm, IPC High Density)
footprint RW-28_M (SOIC, 28-Leads, Body 17.9x7.5mm, Pitch 1.27mm, IPC Low Density)
pins: 1 ~{LDACA} (in) "Load DAC, Logic Input. A new word is transferred into DAC Latch A from input Latch A on the falling edge of this signal. If L\D\A\C\A\ is hard-wired low, data is transferred from input Latch A to DAC Latch A on the sixteenth (See Datasheet)", 2 ~{TFSA} (in) "Transmit Frame Synchronization, Logic Input. This is a frame or synchronization signal for DACA data with serial data expected after the falling edge of this signal.", 3 DTA (in) "Transmit Data, Logic Input. This is the data input which is used in conjunction with T\F\S\A\ and TCLKA to transfer serial data to input Latch A.", 4 NC "No Connect.", 5 TCLKA (in) "Transmit Clock, Logic Input. Serial data bits for DACA are latched on the falling edge of TCLKA when T\F\S\A\ is low.", 6 DGND (power) "Digital Ground. Both DGND pins for the device must be tied together at the device.", 7 TP1 "Test Pin 1. Used when testing the device. Do not connect anything to this pin.", 8 VDD (power) "Positive Power Supply, 5 V +/- 5%. Both VDD pins for the device must be tied together at the device.", 9 AGND (power) "Analog Ground. Both AGND pins for the device must be tied together at the device.", 10 VOUTB (out) "Analog Output Voltage from DACB. This output comes from a buffer amplifier. The range is bipolar, +/-3 V with REF INB = +3 V.", 11 NC "No Connect.", 12 VSS (power) "Negative Power Supply, -5 V +/- 5%. Both VSS pins for the device must be tied together at the device.", 13 TP2 "Test Pin 2. Used when testing the device. Do not connect anything to this pin.", 14 REF INB (in) "DACB Voltage Reference Input. The voltage reference for DACB is applied to this pin. It is internally buffered before being applied to DACB. The nominal reference voltage for correct operation of the AD7244 is 3 V.", 15 ~{LDACB} (in) "Load DAC, Logic Input. A new word is transferred into DAC Latch B from input Latch B on the falling edge of this signal. If L\D\A\C\B\ is hard-wired low, data is transferred from input Latch B to DAC Latch B on the sixteenth (See Datasheet)", 16 ~{TFSB} (in) "Transmit Frame Synchronization, Logic Input. This is a frame or synchronization signal for DACB data with serial data expected after the falling edge of this signal.", 17 DTB (in) "Transmit Data, Logic Input. This is the data input used in conjunction with T\F\S\B\ and TCLKB to transfer serial data to input Latch B.", 18 NC "No Connect.", 19 TCLKB (in) "Transmit Clock, Logic Input. Serial data bits for DACB are latched on the falling edge of TCLKB when T\F\S\B\ is low.", 20 DGND (power) "Digital Ground. Both DGND pins for the device must be tied together at the device.", 21 TP3 "Test Pin 3. Used when testing the device. Do not connect anything to this pin.", 22 VDD (power) "Positive Power Supply, 5 V +/- 5%. Both VDD pins for the device must be tied together at the device", 23 AGND (power) "Analog Ground. Both AGND pins for the device must be tied together at the device.", 24 VOUTA (out) "Analog Output Voltage from DACA. This output comes from a buffer amplifier. The range is bipolar, +/-3 V with REF INA = +3 V.", 25 NC "No Connect.", 26 VSS (power) "Negative Power Supply, -5 V +/- 5%. Both VSS pins for the device must be tied together at the device.", 27 REF OUT (out) "Voltage Reference Output. To operate the DACs with this internal reference, REF OUT should be connected to both REF INA and REF INB. The external load capability of the reference is 500 uA.", 28 REF INA (in) "DACA Voltage Reference Input. The voltage reference for DACA is applied to this pin. It is internally buffered before being applied to DACA. The nominal reference voltage for correct operation of the AD7244 is 3 V."